# EAGLE library part FAN3227TMX (library FAN3227TMX)
Four Versions of Dual Independent Drivers: ; 3A Peak Sink/Source at VDD = 12V ; Dual Inverting + Enable (FAN3226) ; Typical Propagation Delay Under 20ns Matched within 1ns to the Other Channel ; 4.5 to 18V Operating Range ; 8-Lead 3x3mm MLP or 8-Lead SOIC Package ; Dual Non-Inverting + Enable (FAN3227) ; Dual-Inputs in Two Pin-Out Configurations: Compatible with FAN3225x (FAN3228) Compatible with TPS2814D (FAN3229) ; MillerDrive Technology ; 12ns / 9ns Typical Rise/Fall Times with 1nF Load ; Intern Source: Datasheet <https://www.onsemi.com/pub/Collateral/FAN3229T-D.PDF>
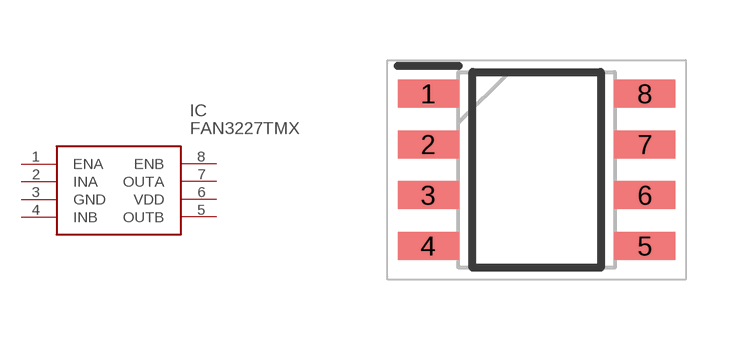
[diagram p0: symbol with the pads of SOIC127P600X175-8N; footprint SOIC127P600X175-8N]

Designator prefix IC

## FAN3227TMX (Description: Four Versions of Dual Independent Drivers: ; 3A Peak Sink/Source at VDD = 12V ; Dual Inverting + Enable (FAN3226) ; Typical Propagation Delay Under 20ns Matched within 1ns to the Other Channel ; 4.5 to 18V Operating Range ; 8-Lead 3x3mm MLP or 8-Lead SOIC Package ; Dual Non-Inverting + Enable (FAN3227) ; Dual-Inputs in Two Pin-Out Configurations: Compatible with FAN3225x (FAN3228) Compatible with TPS2814D (FAN3229) ; MillerDrive Technology ; 12ns / 9ns Typical Rise/Fall Times with 1nF Load ; Intern; Height: 1.75mm; Manufacturer_Name: onsemi; Manufacturer_Part_Number: FAN3227TMX; Mouser_Part_Number: 512-FAN3227TMX; Mouser_Price-Stock: https://www.mouser.co.uk/ProductDetail/onsemi-Fairchild/FAN3227TMX?qs=ODlIKnK5hgdsmwIkcdhHGg%3D%3D)  [SOIC127P600X175-8N]
1  ENA
2  INA
3  GND
4  INB
5  OUTB
6  VDD
7  OUTA
8  ENB

## Footprint SOIC127P600X175-8N (pad centres in mm)
8 lead sop
smd 1.525 x 0.7: 1 -2.712,1.905; 2 -2.712,0.635; 3 -2.712,-0.635; 4 -2.712,-1.905; 5 2.712,-1.905; 6 2.712,-0.635; 7 2.712,0.635; 8 2.712,1.905